# Altium schematic symbol library Conectores.SchLib: 4 symbols
Pins are listed as number, name and electrical type; pins without a type are passive.

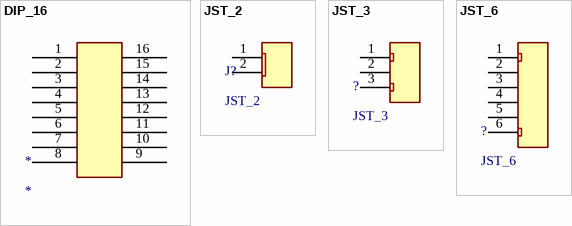
[diagram p0: symbols DIP_16 to JST_6]

## DIP_16
designator *
footprint DIP_16
pins: 1, 2, 3, 4, 5, 6, 7, 8, 9, 10, 11, 12, 13, 14, 15, 16

## JST_2
designator J?
footprint JST_2
pins: 1, 2

## JST_3
designator ?
footprint JST_3
pins: 1, 2, 3

## JST_6
designator ?
footprint JST_6
pins: 1, 2, 3, 4, 5, 6